# Altium footprint library lm2596 module.PcbLib: 1 footprints
Each footprint in its own frame and in the unit in brackets; x right, y up, seen from the top. Pads: shape width x height; smd on the part's side, far side on the other; paste and mask are expansions set on the pad; w line width, h text height; cw(c..) or ccw(c..) is an arc to the next point about the centre after c.
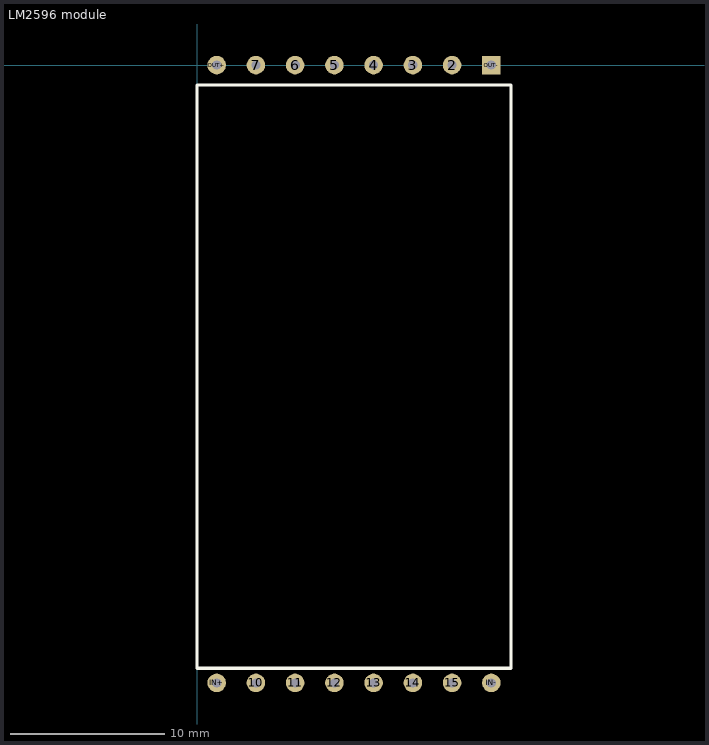
[diagram p0: the footprint, top view; thin cyan lines are the x and y axes]

## LM2596 module [mm]
pads (16):
  round 1.2 hole 0.6: 2(16.51,0) 3(13.97,0) 4(11.43,0) 5(8.89,0) 6(6.35,0) 7(3.81,0) 10(3.81,-40) 11(6.35,-40) 12(8.89,-40) 13(11.43,-40) 14(13.97,-40) 15(16.51,-40) IN+(1.27,-40) IN-(19.05,-40) OUT+(1.27,0)
  rect 1.2x1.2 hole 0.6: OUT-(19.05,0)
Top Overlay:
  lines w0.2: 20.32,-1.295 20.32,-39.053 0,-39.053 0,-1.283 20.32,-1.283
3D body "LM2596 DC to DC Buck Converter 3 A.STEP": height 13.35, standoff -1.8, extent -0.465,-41.666 20.785,1.534